# Altium footprint library SamacSys.PcbLib: 59 footprints (part 1 of 4)
Each footprint in its own frame and in the unit in brackets; x right, y up, seen from the top. Pads: shape width x height; smd on the part's side, far side on the other; paste and mask are expansions set on the pad; w line width, h text height; cw(c..) or ccw(c..) is an arc to the next point about the centre after c.
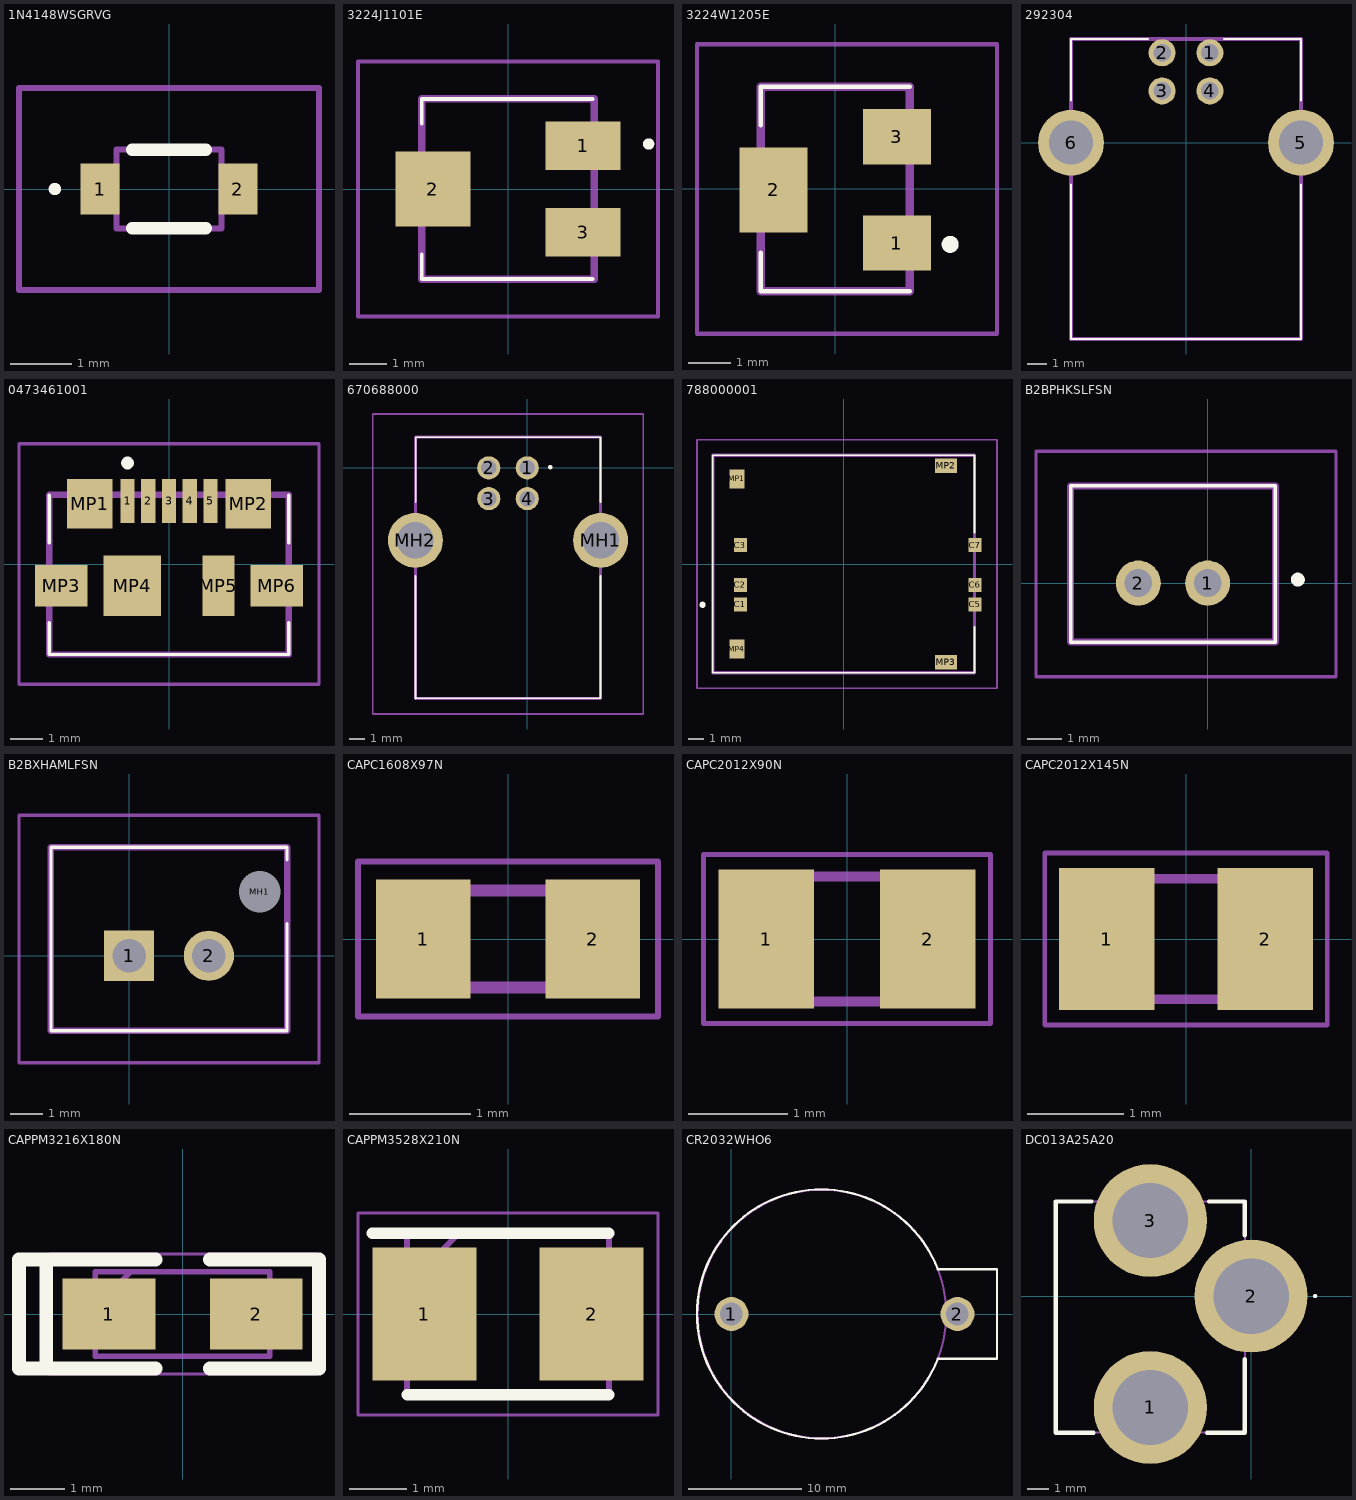
[diagram p0: the footprints below, top view; thin cyan lines are the x and y axes]

## 1N4148WSGRVG [mm]
pads (2):
  rect 0.63x0.83 smd: 1(-1.115,0) 2(1.115,0)
Top Overlay:
  lines w0.1: -1.9,0 cw(c-1.85,0) -1.8,0 cw(c-1.85,0) -1.9,0
  lines w0.2: -0.6,-0.638 0.6,-0.638 ; -0.6,0.638 0.6,0.638
Mechanical 13:
  lines w0.1: -0.85,-0.638 0.85,-0.638 0.85,0.638 -0.85,0.638 -0.85,-0.638
Mechanical 15:
  lines w0.1: -2.43,-1.638 2.43,-1.638 2.43,1.638 -2.43,1.638 -2.43,-1.638
3D body "1N4148WS-GRVG.stp": height 1.2, standoff 0, extent -1.367,-0.638 1.367,0.638

## 3224J1101E [mm]
pads (3):
  rect 2x1.3 smd: 1(2,1.15) 3(2,-1.15)
  rect 2x2 smd: 2(-2,0)
Top Overlay:
  lines w0.1: -2.3,-2.4 -2.3,-1.75 -2.3,-2.4 ; -2.3,1.75 -2.3,2.4 -2.3,1.75 ; -2.25,-2.4 2.25,-2.4 -2.25,-2.4 ; -2.25,2.4 2.25,2.4 -2.25,2.4
  lines w0.2: 3.7,1.2 ccw(c3.75,1.2) 3.8,1.2 ; 3.7,1.2 cw(c3.75,1.2) 3.8,1.2 ; 3.7,1.2 ccw(c3.75,1.2) 3.8,1.2
Mechanical 13:
  lines w0.2: -2.3,-2.4 2.3,-2.4 2.3,2.4 -2.3,2.4 -2.3,-2.4
Mechanical 15:
  lines w0.1: -4,-3.4 4,-3.4 4,3.4 -4,3.4 -4,-3.4
3D body "3224J-1-101E.stp": height 3.81, standoff 0, extent -2.8,-2.4 2.87,2.4

## 3224W1205E [mm]
pads (3):
  rect 1.6x1.3 smd: 1(1.45,-1.27) 3(1.45,1.23)
  rect 1.6x2 smd: 2(-1.45,-0.02)
Top Overlay:
  lines w0.1: -1.75,-1.5 -1.75,-2.4 1.75,-2.4 ; -1.75,1.5 -1.75,2.4 1.75,2.4
  lines w0.2: 2.7,-1.4 cw(c2.7,-1.3) 2.7,-1.2 cw(c2.7,-1.3) 2.7,-1.4
Mechanical 13:
  lines w0.2: -1.75,-2.4 -1.75,2.4 1.75,2.4 1.75,-2.4 -1.75,-2.4
Mechanical 15:
  lines w0.1: -3.25,-3.4 -3.25,3.4 3.8,3.4 3.8,-3.4 -3.25,-3.4
3D body "3224W-1-222E.stp": height 5.3, standoff 0, extent -1.95,-2.4 1.95,2.4

## 292304 [mm]
pads (6):
  round 1.42 hole 0.92: 1(1.25,4.71) 2(-1.25,4.71) 3(-1.25,2.71) 4(1.25,2.71)
  round 3.45 hole 2.3: 5(6.02,0) 6(-6.02,0)
Top Overlay:
  lines w0.1: -6.02,-2.2 -6.02,-10.28 6.02,-10.28 6.02,-2.2 ; -6.02,2.2 -6.02,5.43 -2,5.43 ; 2,5.43 6.02,5.43 6.02,2.2
Mechanical 13:
  lines w0.2: -6.02,-10.28 -6.02,5.43 6.02,5.43 6.02,-10.28 -6.02,-10.28
3D body "292304-1.stp": height 11.53, standoff -3.89, extent -7.195,-10.27 7.195,5.43

## 0473461001 [mm]
pads (11):
  rect 0.45x1.38 smd: 1(-1.3,1.975) 2(-0.65,1.975) 3(0,1.975) 4(0.65,1.975) 5(1.3,1.975)
  rect 1.425x1.55 smd: MP1(-2.487,1.89) MP2(2.487,1.89)
  rect 1.65x1.3 smd: MP3(-3.375,-0.685) MP6(3.375,-0.685)
  rect 1.8x1.9 smd: MP4(-1.15,-0.685)
  rect 1x1.9 smd: MP5(1.55,-0.685)
Top Overlay:
  lines w0.1: -3.75,-1.835 -3.75,-2.835 3.75,-2.835 3.75,-1.835 ; -3.75,0.665 -3.75,2.165 ; 3.75,0.665 3.75,2.165
  lines w0.2: -1.4,3.165 cw(c-1.3,3.165) -1.2,3.165 cw(c-1.3,3.165) -1.4,3.165
Mechanical 13:
  lines w0.2: -3.75,-2.835 -3.75,2.165 3.75,2.165 3.75,-2.835 -3.75,-2.835
Mechanical 15:
  lines w0.1: -4.7,-3.765 -4.7,3.765 4.7,3.765 4.7,-3.765 -4.7,-3.765
3D body "0473461001.stp": height 2.72, standoff 0.01, extent -3.9,-2.5 3.9,2.5

## 670688000 [mm]
pads (6):
  round 1.5 hole 1: 1(0,0) 2(-2.5,0) 3(-2.5,-2) 4(0,-2)
  round 3.57 hole 2.38: MH1(4.77,-4.71) MH2(-7.27,-4.71)
Top Overlay:
  lines w0.1: -7.25,2 4.77,2 ; -7.25,2 4.77,2 ; -7.25,2 -7.25,-2.25 -7.25,2 ; 4.75,-14.99 4.77,-14.99 4.77,-7 4.75,-7 4.75,-14.99 ; 4.75,-14.99 -7.27,-14.99 4.75,-14.99 ; 4.77,2 4.75,2 4.75,-2.25 4.77,-2.25 4.77,2 ; -7.27,-15 -7.25,-15 -7.25,-7 -7.27,-7 -7.27,-15
  lines w0.2: 1.546,0.029 ccw(c1.5,0.05) 1.55,0.05 ; 1.5,0 cw(c1.5,0.05) 1.5,0.1 cw(c1.5,0.05) 1.5,0
Mechanical 13:
  lines w0.2: -7.25,-14.99 4.75,-14.99 4.75,2.01 -7.25,2.01 -7.25,-14.99
Mechanical 15:
  lines w0.1: -10.055,-16 7.555,-16 7.555,3.5 -10.055,3.5 -10.055,-16
3D body "67068-8000.stp": height 11, standoff -4.22, extent -8.68,-14.875 6.18,2.125

## 788000001 [mm]
pads (10):
  rect 0.8x0.9 smd: C1(-6.585,-2.57) C2(-6.585,-1.33) C3(-6.585,1.21) C5(8.355,-2.57) C6(8.355,-1.33) C7(8.355,1.21)
  rect 0.95x1.2 smd: MP1(-6.815,5.425) MP4(-6.815,-5.425)
  rect 1.4x0.95 smd: MP2(6.495,6.26) MP3(6.495,-6.26)
Top Overlay:
  lines w0.1: 8.32,-4 8.32,-6.925 -8.355,-6.925 -8.355,6.925 8.32,6.925 8.32,2
  lines w0.2: -9,-2.7 cw(c-9,-2.6) -9,-2.5 cw(c-9,-2.6) -9,-2.7
Mechanical 13:
  lines w0.2: -8.355,-6.925 8.32,-6.925 8.32,6.925 -8.355,6.925 -8.355,-6.925
Mechanical 15:
  lines w0.1: -9.355,-7.925 9.755,-7.925 9.755,7.925 -9.355,7.925 -9.355,-7.925
3D body "78800-0001.stp": height 1.51, standoff 0, extent -8.28,-6.925 8.68,6.925

## B2BPHKSLFSN [mm]
pads (2):
  round 1.3 hole 0.8: 1(0,0) 2(-2,0)
Top Overlay:
  lines w0.1: -3.95,-1.7 -3.95,2.8 1.95,2.8 1.95,-1.7 -3.95,-1.7
  lines w0.2: 2.6,0 cw(c2.6,0.1) 2.6,0.2 cw(c2.6,0.1) 2.6,0
Mechanical 13:
  lines w0.2: -3.95,-1.7 -3.95,2.8 1.95,2.8 1.95,-1.7 -3.95,-1.7
Mechanical 15:
  lines w0.1: -4.95,-2.7 -4.95,3.8 3.7,3.8 3.7,-2.7 -4.95,-2.7
3D body "B2B-PH-K-S__LF__SN_.stp": height 2.25, standoff -2.25, extent -2.95,-6.4 2.95,3

## B2BXHAMLFSN [mm]
pads (3):
  rect 1.575x1.575 hole 1.05: 1(0,0)
  round 1.575 hole 1.05: 2(2.5,0)
  round 0.65 hole 1.3 unplated: MH1(4.1,2)
Top Overlay:
  lines w0.1: -2.45,-2.35 4.95,-2.35 ; -2.45,-2.35 4.95,-2.35 ; -2.45,-2.35 -2.45,3.4 ; -2.45,-2.35 -2.45,3.4 ; -2.45,3.4 4.95,3.4 ; -2.45,3.4 4.95,3.4 ; 4.95,-2.35 4.95,1 4.95,-2.35 ; 4.95,3.4 4.95,3 4.95,3.4
Mechanical 13:
  lines w0.2: -2.45,-2.35 -2.45,3.4 4.95,3.4 4.95,-2.35 -2.45,-2.35
Mechanical 15:
  lines w0.1: -3.45,-3.35 -3.45,4.4 5.95,4.4 5.95,-3.35 -3.45,-3.35
3D body "B2B-XH-AM_LF__SN_.stp": height 6.9, standoff -3.5, extent -2.45,-2.355 4.95,3.395

## CAPC1608X97N [mm]
pads (2):
  rect 0.78x0.98 smd: 1(-0.7,0) 2(0.7,0)
Mechanical 13:
  lines w0.1: -0.8,-0.4 0.8,-0.4 0.8,0.4 -0.8,0.4 -0.8,-0.4
Mechanical 15:
  lines w0.05: -1.24,-0.64 1.24,-0.64 1.24,0.64 -1.24,0.64 -1.24,-0.64
3D body "VJ0603A2R7CCPAJ.stp": height 0.97, standoff 0, extent -0.8,-0.4 0.8,0.4

## CAPC2012X90N [mm]
pads (2):
  rect 0.96x1.39 smd: 1(-0.81,0) 2(0.81,0)
Mechanical 13:
  lines w0.1: -1,-0.625 1,-0.625 1,0.625 -1,0.625 -1,-0.625
Mechanical 15:
  lines w0.05: -1.44,-0.85 1.44,-0.85 1.44,0.85 -1.44,0.85 -1.44,-0.85
3D body "MCMT21N470F250CT.stp": height 0.9, standoff 0, extent -1,-0.625 1,0.625

## CAPC2012X145N [mm]
pads (2):
  rect 0.99x1.47 smd: 1(-0.82,0) 2(0.82,0)
Mechanical 13:
  lines w0.1: -1,-0.625 -1,0.625 1,0.625 1,-0.625 -1,-0.625
Mechanical 15:
  lines w0.05: -1.465,-0.89 -1.465,0.89 1.465,0.89 1.465,-0.89 -1.465,-0.89
3D body "VJ0805A471JCAAJ.stp": height 1.45, standoff 0, extent -1,-0.625 1,0.625

## CAPPM3216X180N [mm]
pads (2):
  rect 1.7x1.3 smd: 1(-1.35,0) 2(1.35,0)
Top Overlay:
  lines w0.254: -0.5,-1 -2.5,-1 ; -0.5,1 -2.5,1 ; 0.5,-1 2.5,-1 2.5,1 0.5,1 ; -2.5,-1 -2.5,1 ; -2.5,-1 -3,-1 -3,1 -2.5,1
Mechanical 13:
  lines w0.1: -1.6,0.125 -0.95,0.775 ; -1.6,-0.775 -1.6,0.775 1.6,0.775 1.6,-0.775 -1.6,-0.775
Mechanical 15:
  lines w0.05: -2.45,-1.1 -2.45,1.1 2.45,1.1 2.45,-1.1 -2.45,-1.1
3D body "TAJA106K006RNJ.stp": height 1.8, standoff 0, extent -1.6,-0.775 1.6,0.775

## CAPPM3528X210N [mm]
pads (2):
  rect 1.8x2.3 smd: 1(-1.45,0) 2(1.45,0)
Top Overlay:
  lines w0.2: -2.35,1.4 1.75,1.4 ; -1.75,-1.4 1.75,-1.4
Mechanical 13:
  lines w0.1: -1.75,0.5 -0.85,1.4 ; -1.75,-1.4 -1.75,1.4 1.75,1.4 1.75,-1.4 -1.75,-1.4
Mechanical 15:
  lines w0.05: -2.6,-1.75 -2.6,1.75 2.6,1.75 2.6,-1.75 -2.6,-1.75
3D body "TMCMB1A107MTRF.stp": height 2.1, standoff 0, extent -1.75,-1.4 1.75,1.4

## CR2032WHO6 [mm]
pads (2):
  round 3 hole 2: 1(0,0) 2(20,0)
Top Overlay:
  lines w0.2: 18.266,-3.95 cw(c7.975,0) 18.266,3.95 23.5,3.95 23.5,0 23.5,-3.95 18.266,-3.95
Mechanical 13:
  lines w0.2: -3,0 ccw(c8,0) 19,0 ccw(c8,0) -3,0
3D body: height 4, standoff 0, extent -3.1,-11 18.9,11
3D body: height 8.7, standoff -0.1, extent 17,-3.95 23.5,3.9
3D body: height 0, standoff -3.8, extent 19.15,-0.85 20.85,0.85
3D body: height 0, standoff -3.8, extent -0.9,-0.8 0.8,0.9

## DC013A25A20 [mm]
pads (3):
  round 5.385 hole 3.59: 1(-4.8,-5.3) 2(0,0) 3(-4.8,3.6)
Top Overlay:
  lines w0.1: 3,0 ccw(c3.05,0) 3.1,0 ccw(c3.05,0) 3,0
  lines w0.2: -7.6,4.5 -9.3,4.5 -9.3,-6.5 -7.5,-6.5 ; -2.1,-6.5 -0.3,-6.5 -0.3,-3 ; -2,4.5 -0.3,4.5 -0.3,2.9
Mechanical 13:
  lines w0.1: -9.3,-6.5 -0.3,-6.5 -0.3,4.5 -9.3,4.5 -9.3,-6.5
3D body "DC-013A-2.5A-2.0.stp": height 15, standoff -3.3, extent -9.5,-6.5 -0.1,4.5